# EAGLE library part 74LVC4245APW-Q100J (library SamacSys_Parts)
74LVC4245A-Q100 - Octal dual supply translating transceiver; 3-state@en-us Source: Datasheet <https://assets.nexperia.com/documents/data-sheet/74LVC4245A_Q100.pdf>
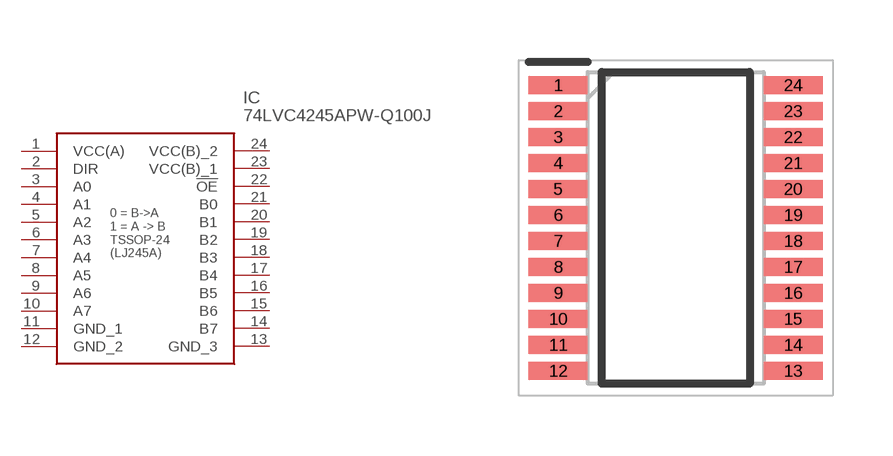
[diagram p138: symbol with the pads of SOP65P640X110-24N; footprint SOP65P640X110-24N]

Designator prefix IC

## 74LVC4245APW-Q100J (DESCRIPTION: 74LVC4245A-Q100 - Octal dual supply translating transceiver; 3-state@en-us; HEIGHT: 1.1mm; MANUFACTURER_NAME: Nexperia; MANUFACTURER_PART_NUMBER: 74LVC4245APW-Q100J; MOUSER_PART_NUMBER: 771-74LVC4245APWQ100; MOUSER_PRICE-STOCK: https://www.mouser.co.uk/ProductDetail/Nexperia/74LVC4245APW-Q100J?qs=%252BRKXB2WKlSf6PPILzzwfUw%3D%3D)  [SOP65P640X110-24N]
1  VCC(A)
2  DIR
3  A0
4  A1
5  A2
6  A3
7  A4
8  A5
9  A6
10  A7
11  GND_1
12  GND_2
13  GND_3
14  B7
15  B6
16  B5
17  B4
18  B3
19  B2
20  B1
21  B0
22  !OE
23  VCC(B)_1
24  VCC(B)_2

## Footprint SOP65P640X110-24N (pad centres in mm)
SOT355-1
smd 1.475 x 0.45: 1 -2.938,3.575; 2 -2.938,2.925; 3 -2.938,2.275; 4 -2.938,1.625; 5 -2.938,0.975; 6 -2.938,0.325; 7 -2.938,-0.325; 8 -2.938,-0.975; 9 -2.938,-1.625; 10 -2.938,-2.275; 11 -2.938,-2.925; 12 -2.938,-3.575; 13 2.938,-3.575; 14 2.938,-2.925; 15 2.938,-2.275; 16 2.938,-1.625; 17 2.938,-0.975; 18 2.938,-0.325; 19 2.938,0.325; 20 2.938,0.975; 21 2.938,1.625; 22 2.938,2.275; 23 2.938,2.925; 24 2.938,3.575